# Altium schematic symbol library PCF8563T_5,518.Schlib: 1 symbol
Pins are listed as number, name and electrical type; pins without a type are passive.

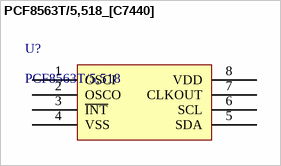
[diagram p0: symbol PCF8563T/5,518_[C7440]]

## PCF8563T/5,518_[C7440]
designator U?, comment PCF8563T/5,518
实时时钟
footprint SOIC-8_150mil
pins: 1 OSCI, 2 OSCO, 3 ~{INT}, 4 VSS, 5 SDA, 6 SCL, 7 CLKOUT, 8 VDD